# Altium schematic symbol library acs712.SchLib: 1 symbol
Pins are listed as number, name and electrical type; pins without a type are passive.

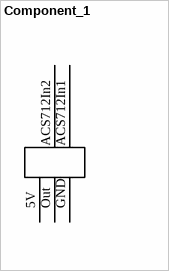
[diagram p0: symbol Component_1]

## Component_1
designator C?
Polypropylene film with epoxy Cap CBB22 105J400V; Manufacturer: CHINA; Designer: Abbas Basereh; Data: 16-12-2016; Link: https://www.alibaba.com/product-detail/CBB22-capacitors-105J-400V-1UF-400V_60020643516.html; Part. No: 105J400V
footprint CBB22 (W23_0_H14_5_T8_0_P19)
pins: 5V, ACS712In1, ACS712In2, GND, Out
1 alternate drawing of the same symbol